# Altium schematic symbol library Buzzer.SchLib: 1 symbol
Pins are listed as number, name and electrical type; pins without a type are passive.

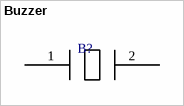
[diagram p0: symbol Buzzer]

## Buzzer
designator B?, comment bu  (value not drawn)
Φ9.2 × H4.2mm
footprint buzzer 9.2 x 4.2mm
pins: 1 +, 2 -